# Altium footprint library yousefIbrahim&ZyadTarekPCB1.PcbLib: 18 footprints (part 2 of 2)
Each footprint in its own frame and in the unit in brackets; x right, y up, seen from the top. Pads: shape width x height; smd on the part's side, far side on the other; paste and mask are expansions set on the pad; w line width, h text height; cw(c..) or ccw(c..) is an arc to the next point about the centre after c.
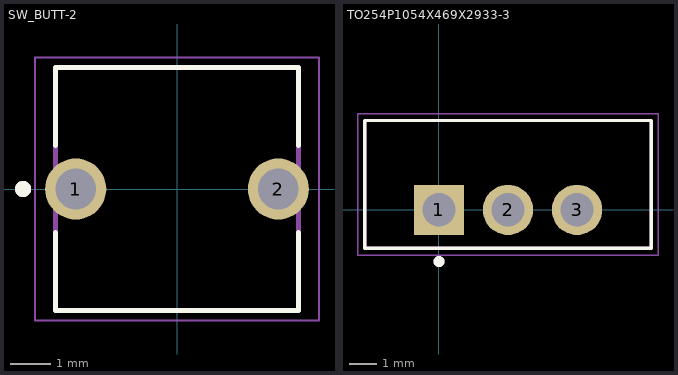
[diagram p1: the footprints below, top view; thin cyan lines are the x and y axes]

## SW_BUTT-2 [mm]
pads (2):
  round 1.508 hole 1: 1(-2.5,0) 2(2.5,0)
Top Overlay:
  circle w0.2: c-3.8,0 r0.1
  lines w0.127: -3,-1.075 -3,-3 3,-3 3,-1.075 ; -3,1.075 -3,3 3,3 3,1.075
Mechanical 13:
  circle w0.2: c-3.8,0 r0.1
  lines w0.127: -3,-3 -3,3 3,3 3,-3 -3,-3
Mechanical 15:
  lines w0.05: -3.504,-3.25 3.504,-3.25 3.504,3.25 -3.504,3.25 -3.504,-3.25

## TO254P1054X469X2933-3 [mm]
pads (3):
  rect 1.85x1.85 hole 1.23: 1(0,0)
  round 1.85 hole 1.23: 2(2.54,0) 3(5.08,0)
Top Overlay:
  circle w0.2: c0,-1.9 r0.1
  lines w0.127: -2.73,-1.41 -2.73,3.29 7.81,3.29 7.81,-1.41 -2.73,-1.41
Mechanical 13:
  circle w0.2: c0,-1.9 r0.1
  lines w0.127: -2.73,-1.41 -2.73,3.29 7.81,3.29 7.81,-1.41 -2.73,-1.41
Mechanical 15:
  lines w0.05: -2.98,-1.66 8.06,-1.66 8.06,3.54 -2.98,3.54 -2.98,-1.66